# Altium schematic symbol library kmilo17pet-NSC_Switcher.SchLib: 2226 symbols (part 16 of 59)
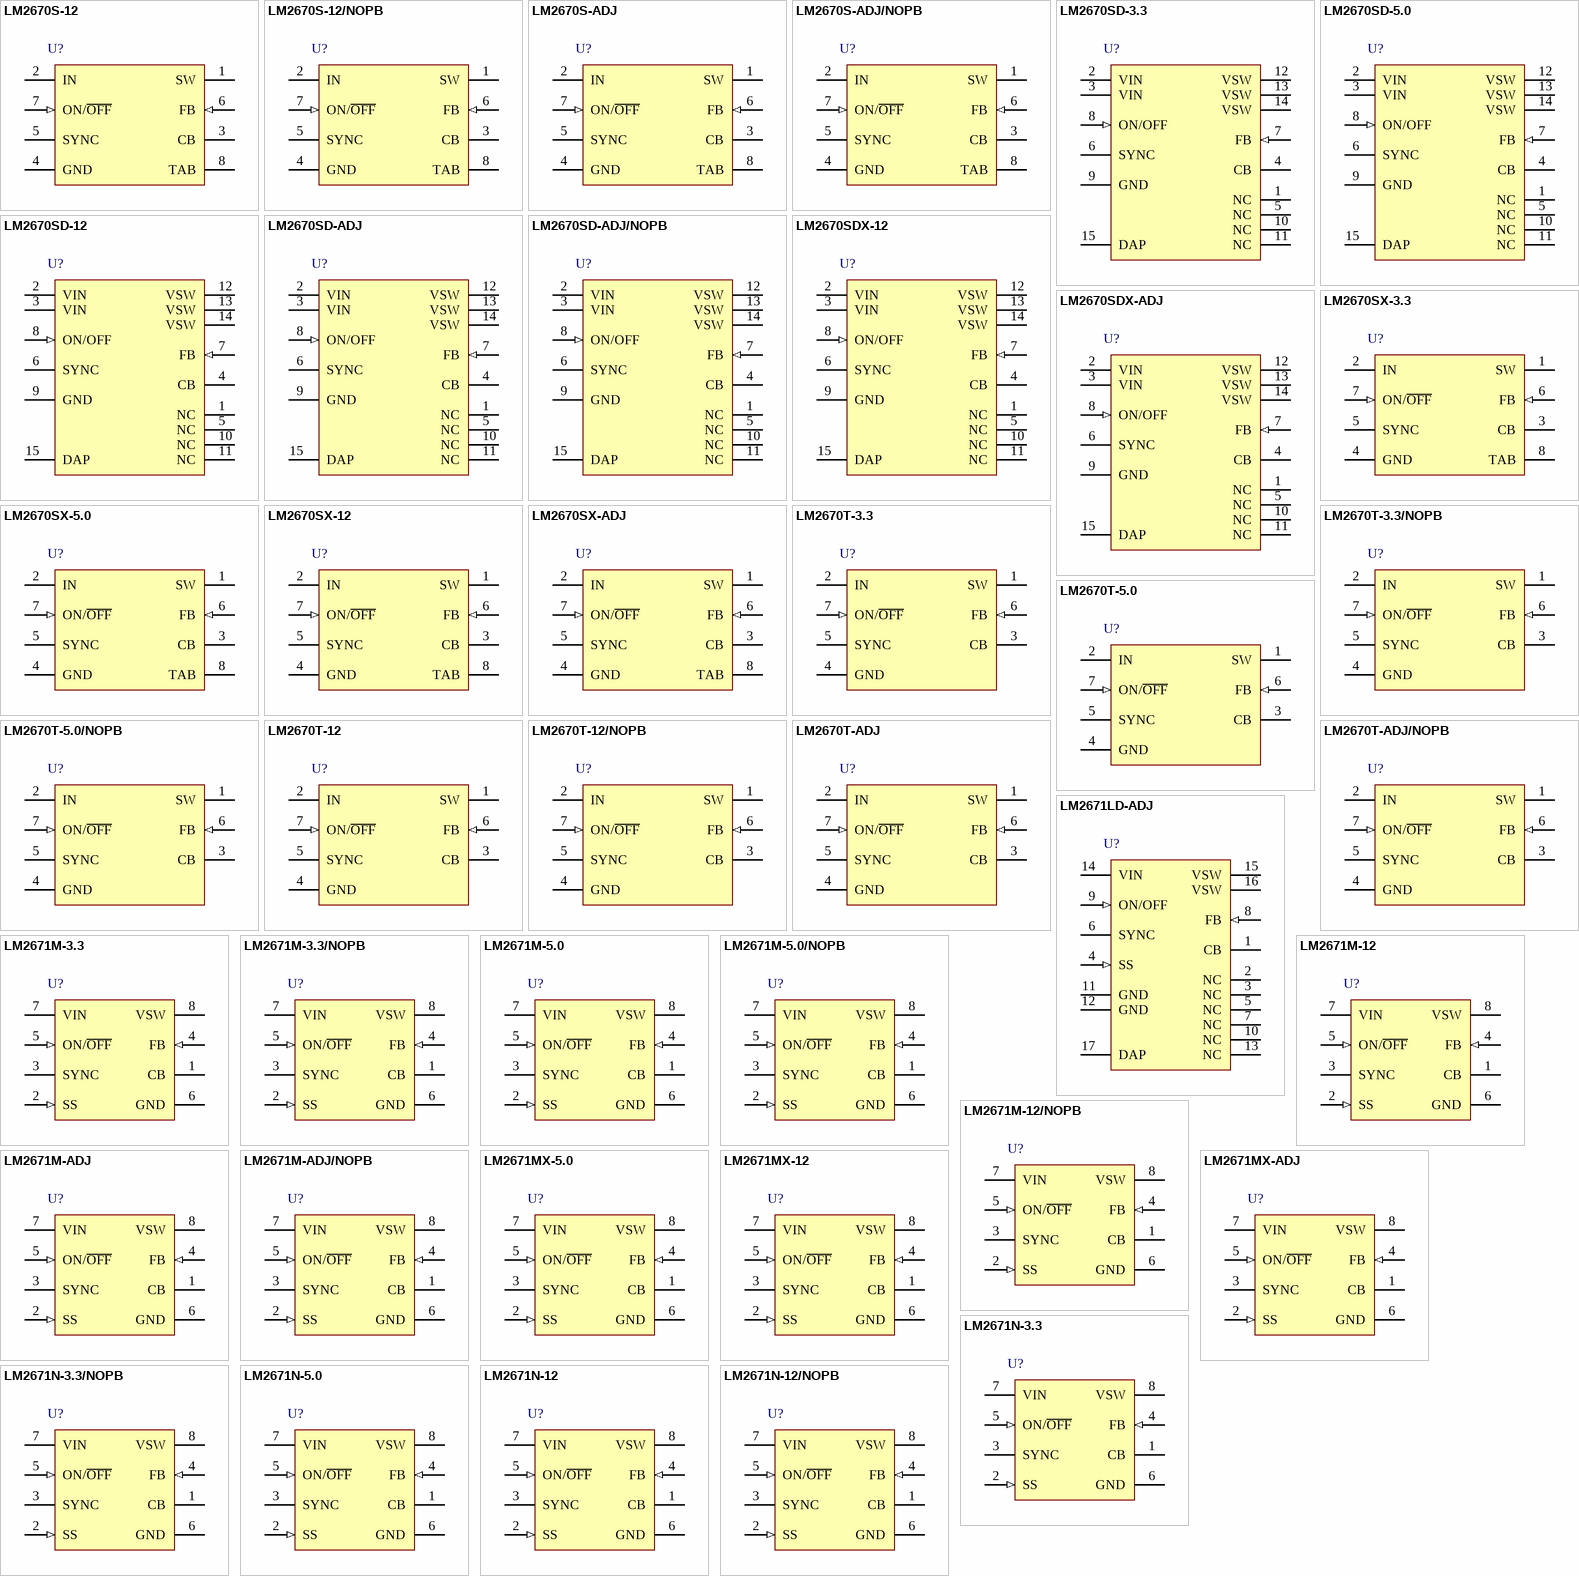
[diagram p84: symbols LM2670S-12 to LM2671N-12/NOPB]

## LM2670T-3.3/NOPB
designator U?
SIMPLE SWITCHER® High Efficiency 3A Step-Down Voltage Regulator with Sync, 7-pin TO-220, Pb-Free; PartNumber: LM2670T-3.3/NOPB; Manufacturer: National Semiconductor; PackageTopMarking: NSUZXYTTE#*LM2670*T-3.3; PowerWise: N; High-Reliability: Y; DatasheetVersion: Feb-2008; PackageVersion: revC, Apr-1999; PackageReference: TA07B; PackageDescription: TO-220, Molded, .400 x .590 x .180in Body, 7 Lead, .050in Pitch, Staggered; RoHS: Y; PinCount: 7; CompType: Switcher; Code_JEDEC: TO-220-AB; ComponentLink1Description: Manufacturer URL; ComponentLink1URL: http://www.national.com/; ComponentLink2Description: LM2670 Datasheet; ComponentLink2URL: http://www.national.com/ds/LM/LM2670.pdf; ComponentLink3Description: LM2670 Web Page; ComponentLink3URL: http://www.national.com/pf/LM/LM2670.html; ComponentLink4Description: TA07B Package Page; ComponentLink4URL: http://www.national.com/packaging/folders/ta07b.html
footprint TA07B (TO, Thru-Hole, Vertical, Heatsink Mounted; 7 Bent Staggered Leads; Body 10.2x8.7x4.6mm, Pitch 1.27 mm)
pins: 1 SW (power), 2 IN (power), 3 CB, 4 GND (power), 5 SYNC, 6 FB (in), 7 ON/~{OFF} (in)

## LM2670T-5.0
designator U?
SIMPLE SWITCHER® High Efficiency 3A Step-Down Voltage Regulator with Sync, 7-pin TO-220; PartNumber: LM2670T-5.0; Manufacturer: National Semiconductor; PackageTopMarking: NSUZXYTTE#*LM2670*T-5.0; PowerWise: N; High-Reliability: Y; DatasheetVersion: Feb-2008; PackageVersion: revC, Apr-1999; PackageReference: TA07B; PackageDescription: TO-220, Molded, .400 x .590 x .180in Body, 7 Lead, .050in Pitch, Staggered; RoHS: N; PinCount: 7; CompType: Switcher; Code_JEDEC: TO-220-AB; ComponentLink1Description: Manufacturer URL; ComponentLink1URL: http://www.national.com/; ComponentLink2Description: LM2670 Datasheet; ComponentLink2URL: http://www.national.com/ds/LM/LM2670.pdf; ComponentLink3Description: LM2670 Web Page; ComponentLink3URL: http://www.national.com/pf/LM/LM2670.html; ComponentLink4Description: TA07B Package Page; ComponentLink4URL: http://www.national.com/packaging/folders/ta07b.html
footprint TA07B (TO, Thru-Hole, Vertical, Heatsink Mounted; 7 Bent Staggered Leads; Body 10.2x8.7x4.6mm, Pitch 1.27 mm)
pins: 1 SW (power), 2 IN (power), 3 CB, 4 GND (power), 5 SYNC, 6 FB (in), 7 ON/~{OFF} (in)

## LM2670T-5.0/NOPB
designator U?
SIMPLE SWITCHER® High Efficiency 3A Step-Down Voltage Regulator with Sync, 7-pin TO-220, Pb-Free; PartNumber: LM2670T-5.0/NOPB; Manufacturer: National Semiconductor; PackageTopMarking: NSUZXYTTE#*LM2670*T-5.0; PowerWise: N; High-Reliability: Y; DatasheetVersion: Feb-2008; PackageVersion: revC, Apr-1999; PackageReference: TA07B; PackageDescription: TO-220, Molded, .400 x .590 x .180in Body, 7 Lead, .050in Pitch, Staggered; RoHS: Y; PinCount: 7; CompType: Switcher; Code_JEDEC: TO-220-AB; ComponentLink1Description: Manufacturer URL; ComponentLink1URL: http://www.national.com/; ComponentLink2Description: LM2670 Datasheet; ComponentLink2URL: http://www.national.com/ds/LM/LM2670.pdf; ComponentLink3Description: LM2670 Web Page; ComponentLink3URL: http://www.national.com/pf/LM/LM2670.html; ComponentLink4Description: TA07B Package Page; ComponentLink4URL: http://www.national.com/packaging/folders/ta07b.html
footprint TA07B (TO, Thru-Hole, Vertical, Heatsink Mounted; 7 Bent Staggered Leads; Body 10.2x8.7x4.6mm, Pitch 1.27 mm)
pins: 1 SW (power), 2 IN (power), 3 CB, 4 GND (power), 5 SYNC, 6 FB (in), 7 ON/~{OFF} (in)

## LM2670T-12
designator U?
SIMPLE SWITCHER® High Efficiency 3A Step-Down Voltage Regulator with Sync, 7-pin TO-220; PartNumber: LM2670T-12; Manufacturer: National Semiconductor; PackageTopMarking: NSUZXYTT*LM2670*T-12; PowerWise: N; High-Reliability: Y; DatasheetVersion: Feb-2008; PackageVersion: revC, Apr-1999; PackageReference: TA07B; PackageDescription: TO-220, Molded, .400 x .590 x .180in Body, 7 Lead, .050in Pitch, Staggered; RoHS: Y; PinCount: 7; CompType: Switcher; Code_JEDEC: TO-220-AB; ComponentLink1Description: Manufacturer URL; ComponentLink1URL: http://www.national.com/; ComponentLink2Description: LM2670 Datasheet; ComponentLink2URL: http://www.national.com/ds/LM/LM2670.pdf; ComponentLink3Description: LM2670 Web Page; ComponentLink3URL: http://www.national.com/pf/LM/LM2670.html; ComponentLink4Description: TA07B Package Page; ComponentLink4URL: http://www.national.com/packaging/folders/ta07b.html
footprint TA07B (TO, Thru-Hole, Vertical, Heatsink Mounted; 7 Bent Staggered Leads; Body 10.2x8.7x4.6mm, Pitch 1.27 mm)
pins: 1 SW (power), 2 IN (power), 3 CB, 4 GND (power), 5 SYNC, 6 FB (in), 7 ON/~{OFF} (in)

## LM2670T-12/NOPB
designator U?
SIMPLE SWITCHER® High Efficiency 3A Step-Down Voltage Regulator with Sync, 7-pin TO-220, Pb-Free; PartNumber: LM2670T-12/NOPB; Manufacturer: National Semiconductor; PackageTopMarking: NSUZXYTTE#*LM2670*T-12; PowerWise: N; High-Reliability: Y; DatasheetVersion: Feb-2008; PackageVersion: revC, Apr-1999; PackageReference: TA07B; PackageDescription: TO-220, Molded, .400 x .590 x .180in Body, 7 Lead, .050in Pitch, Staggered; RoHS: Y; PinCount: 7; CompType: Switcher; Code_JEDEC: TO-220-AB; ComponentLink1Description: Manufacturer URL; ComponentLink1URL: http://www.national.com/; ComponentLink2Description: LM2670 Datasheet; ComponentLink2URL: http://www.national.com/ds/LM/LM2670.pdf; ComponentLink3Description: LM2670 Web Page; ComponentLink3URL: http://www.national.com/pf/LM/LM2670.html; ComponentLink4Description: TA07B Package Page; ComponentLink4URL: http://www.national.com/packaging/folders/ta07b.html
footprint TA07B (TO, Thru-Hole, Vertical, Heatsink Mounted; 7 Bent Staggered Leads; Body 10.2x8.7x4.6mm, Pitch 1.27 mm)
pins: 1 SW (power), 2 IN (power), 3 CB, 4 GND (power), 5 SYNC, 6 FB (in), 7 ON/~{OFF} (in)

## LM2670T-ADJ
designator U?
SIMPLE SWITCHER® High Efficiency 3A Step-Down Voltage Regulator with Sync, 7-pin TO-220; PartNumber: LM2670T-ADJ; Manufacturer: National Semiconductor; PackageTopMarking: NSUZXYTTE#*LM2670*T-ADJ; PowerWise: N; High-Reliability: Y; DatasheetVersion: Feb-2008; PackageVersion: revC, Apr-1999; PackageReference: TA07B; PackageDescription: TO-220, Molded, .400 x .590 x .180in Body, 7 Lead, .050in Pitch, Staggered; RoHS: N; PinCount: 7; CompType: Switcher; Code_JEDEC: TO-220-AB; ComponentLink1Description: Manufacturer URL; ComponentLink1URL: http://www.national.com/; ComponentLink2Description: LM2670 Datasheet; ComponentLink2URL: http://www.national.com/ds/LM/LM2670.pdf; ComponentLink3Description: LM2670 Web Page; ComponentLink3URL: http://www.national.com/pf/LM/LM2670.html; ComponentLink4Description: TA07B Package Page; ComponentLink4URL: http://www.national.com/packaging/folders/ta07b.html
footprint TA07B (TO, Thru-Hole, Vertical, Heatsink Mounted; 7 Bent Staggered Leads; Body 10.2x8.7x4.6mm, Pitch 1.27 mm)
pins: 1 SW (power), 2 IN (power), 3 CB, 4 GND (power), 5 SYNC, 6 FB (in), 7 ON/~{OFF} (in)

## LM2670T-ADJ/NOPB
designator U?
SIMPLE SWITCHER® High Efficiency 3A Step-Down Voltage Regulator with Sync, 7-pin TO-220, Pb-Free; PartNumber: LM2670T-ADJ/NOPB; Manufacturer: National Semiconductor; PackageTopMarking: NSUZXYTTE#*LM2670*T-ADJ; PowerWise: N; High-Reliability: Y; DatasheetVersion: Feb-2008; PackageVersion: revC, Apr-1999; PackageReference: TA07B; PackageDescription: TO-220, Molded, .400 x .590 x .180in Body, 7 Lead, .050in Pitch, Staggered; RoHS: Y; PinCount: 7; CompType: Switcher; Code_JEDEC: TO-220-AB; ComponentLink1Description: Manufacturer URL; ComponentLink1URL: http://www.national.com/; ComponentLink2Description: LM2670 Datasheet; ComponentLink2URL: http://www.national.com/ds/LM/LM2670.pdf; ComponentLink3Description: LM2670 Web Page; ComponentLink3URL: http://www.national.com/pf/LM/LM2670.html; ComponentLink4Description: TA07B Package Page; ComponentLink4URL: http://www.national.com/packaging/folders/ta07b.html
footprint TA07B (TO, Thru-Hole, Vertical, Heatsink Mounted; 7 Bent Staggered Leads; Body 10.2x8.7x4.6mm, Pitch 1.27 mm)
pins: 1 SW (power), 2 IN (power), 3 CB, 4 GND (power), 5 SYNC, 6 FB (in), 7 ON/~{OFF} (in)

## LM2671LD-ADJ
designator U?
SIMPLE SWITCHER® Power Converter High Efficiency 500mA Step-Down Voltage Regulator with Features, 16-pin LLP; PartNumber: LM2671LD-ADJ; Manufacturer: National Semiconductor; PackageTopMarking: NS*UZXYTT*S0008B; PowerWise: N; High-Reliability: Y; DatasheetVersion: Apr-2007; PackageVersion: revA, Nov-2000; PackageReference: LDA16A; PackageDescription: LLP, Plastic, Dual, 5 x 5 x 0.75mm Body, 16 Lead, 0.5mm Pitch; RoHS: N; PinCount: 16; CompType: Switcher; ComponentLink1Description: Manufacturer URL; ComponentLink1URL: http://www.national.com/; ComponentLink2Description: LM2671 Datasheet; ComponentLink2URL: http://www.national.com/ds/LM/LM2671.pdf; ComponentLink3Description: LM2671 Web Page; ComponentLink3URL: http://www.national.com/pf/LM/LM2671.html; ComponentLink4Description: LDA16A Package Page; ComponentLink4URL: http://www.national.com/packaging/folders/lda16a.html
footprint LDA16A (PSON, 16-Leads, Body 5x5 mm, Pitch 0.5mm, NSC Recommended)
pins: 1 CB, 2 NC, 3 NC, 4 SS (in), 5 NC, 6 SYNC, 7 NC, 8 FB (in), 9 ON/OFF (in), 10 NC, 11 GND (power), 12 GND (power), 13 NC, 14 VIN (power), 15 VSW (power), 16 VSW (power), 17 DAP

## LM2671M-3.3
designator U?
SIMPLE SWITCHER® Power Converter High Efficiency 500mA Step-Down Voltage Regulator with Features, 8-pin Narrow SOIC; PartNumber: LM2671M-3.3; Manufacturer: National Semiconductor; PackageTopMarking: NSZXTT*2671*M3.3; PowerWise: N; High-Reliability: Y; DatasheetVersion: Apr-2007; PackageVersion: revM, May-2009; PackageReference: M08A; PackageDescription: SOIC Narrow, 4.9 x 3.9 x 1.45mm, 8 Lead, 1.27mm Pitch; RoHS: N; PinCount: 8; CompType: Switcher; Code_JEDEC: MS-012-AA; Code_IPC: SOIC127P600-8; ComponentLink1Description: Manufacturer URL; ComponentLink1URL: http://www.national.com/; ComponentLink2Description: LM2671 Datasheet; ComponentLink2URL: http://www.national.com/ds/LM/LM2671.pdf; ComponentLink3Description: LM2671 Web Page; ComponentLink3URL: http://www.national.com/pf/LM/LM2671.html; ComponentLink4Description: M08A Package Page; ComponentLink4URL: http://www.national.com/packaging/folders/m08a.html
footprint M08A_N (SOIC, 8-Leads, Body 4.9x3.9mm, Pitch 1.27mm, IPC Medium Density)
footprint M08A_L (SOIC, 8-Leads, Body 4.9x3.9mm, Pitch 1.27mm, IPC High Density)
footprint M08A_M (SOIC, 8-Leads, Body 4.9x3.9mm, Pitch 1.27mm, IPC Low Density)
pins: 1 CB, 2 SS (in), 3 SYNC, 4 FB (in), 5 ON/~{OFF} (in), 6 GND (power), 7 VIN (power), 8 VSW (power)

## LM2671M-3.3/NOPB
designator U?
SIMPLE SWITCHER® Power Converter High Efficiency 500mA Step-Down Voltage Regulator with Features, 8-pin Narrow SOIC, Pb-Free; PartNumber: LM2671M-3.3/NOPB; Manufacturer: National Semiconductor; PackageTopMarking: NSZXTT*2671*M3.3; PowerWise: N; High-Reliability: Y; DatasheetVersion: Apr-2007; PackageVersion: revM, May-2009; PackageReference: M08A; PackageDescription: SOIC Narrow, 4.9 x 3.9 x 1.45mm, 8 Lead, 1.27mm Pitch; RoHS: Y; PinCount: 8; CompType: Switcher; Code_JEDEC: MS-012-AA; Code_IPC: SOIC127P600-8; ComponentLink1Description: Manufacturer URL; ComponentLink1URL: http://www.national.com/; ComponentLink2Description: LM2671 Datasheet; ComponentLink2URL: http://www.national.com/ds/LM/LM2671.pdf; ComponentLink3Description: LM2671 Web Page; ComponentLink3URL: http://www.national.com/pf/LM/LM2671.html; ComponentLink4Description: M08A Package Page; ComponentLink4URL: http://www.national.com/packaging/folders/m08a.html
footprint M08A_N (SOIC, 8-Leads, Body 4.9x3.9mm, Pitch 1.27mm, IPC Medium Density)
footprint M08A_L (SOIC, 8-Leads, Body 4.9x3.9mm, Pitch 1.27mm, IPC High Density)
footprint M08A_M (SOIC, 8-Leads, Body 4.9x3.9mm, Pitch 1.27mm, IPC Low Density)
pins: 1 CB, 2 SS (in), 3 SYNC, 4 FB (in), 5 ON/~{OFF} (in), 6 GND (power), 7 VIN (power), 8 VSW (power)

## LM2671M-5.0
designator U?
SIMPLE SWITCHER® Power Converter High Efficiency 500mA Step-Down Voltage Regulator with Features, 8-pin Narrow SOIC; PartNumber: LM2671M-5.0; Manufacturer: National Semiconductor; PackageTopMarking: NSZXTT*2671*M5.0; PowerWise: N; High-Reliability: Y; DatasheetVersion: Apr-2007; PackageVersion: revM, May-2009; PackageReference: M08A; PackageDescription: SOIC Narrow, 4.9 x 3.9 x 1.45mm, 8 Lead, 1.27mm Pitch; RoHS: N; PinCount: 8; CompType: Switcher; Code_JEDEC: MS-012-AA; Code_IPC: SOIC127P600-8; ComponentLink1Description: Manufacturer URL; ComponentLink1URL: http://www.national.com/; ComponentLink2Description: LM2671 Datasheet; ComponentLink2URL: http://www.national.com/ds/LM/LM2671.pdf; ComponentLink3Description: LM2671 Web Page; ComponentLink3URL: http://www.national.com/pf/LM/LM2671.html; ComponentLink4Description: M08A Package Page; ComponentLink4URL: http://www.national.com/packaging/folders/m08a.html
footprint M08A_N (SOIC, 8-Leads, Body 4.9x3.9mm, Pitch 1.27mm, IPC Medium Density)
footprint M08A_L (SOIC, 8-Leads, Body 4.9x3.9mm, Pitch 1.27mm, IPC High Density)
footprint M08A_M (SOIC, 8-Leads, Body 4.9x3.9mm, Pitch 1.27mm, IPC Low Density)
pins: 1 CB, 2 SS (in), 3 SYNC, 4 FB (in), 5 ON/~{OFF} (in), 6 GND (power), 7 VIN (power), 8 VSW (power)

## LM2671M-5.0/NOPB
designator U?
SIMPLE SWITCHER® Power Converter High Efficiency 500mA Step-Down Voltage Regulator with Features, 8-pin Narrow SOIC, Pb-Free; PartNumber: LM2671M-5.0/NOPB; Manufacturer: National Semiconductor; PackageTopMarking: NSZXTT*2671*M5.0; PowerWise: N; High-Reliability: Y; DatasheetVersion: Apr-2007; PackageVersion: revM, May-2009; PackageReference: M08A; PackageDescription: SOIC Narrow, 4.9 x 3.9 x 1.45mm, 8 Lead, 1.27mm Pitch; RoHS: Y; PinCount: 8; CompType: Switcher; Code_JEDEC: MS-012-AA; Code_IPC: SOIC127P600-8; ComponentLink1Description: Manufacturer URL; ComponentLink1URL: http://www.national.com/; ComponentLink2Description: LM2671 Datasheet; ComponentLink2URL: http://www.national.com/ds/LM/LM2671.pdf; ComponentLink3Description: LM2671 Web Page; ComponentLink3URL: http://www.national.com/pf/LM/LM2671.html; ComponentLink4Description: M08A Package Page; ComponentLink4URL: http://www.national.com/packaging/folders/m08a.html
footprint M08A_N (SOIC, 8-Leads, Body 4.9x3.9mm, Pitch 1.27mm, IPC Medium Density)
footprint M08A_L (SOIC, 8-Leads, Body 4.9x3.9mm, Pitch 1.27mm, IPC High Density)
footprint M08A_M (SOIC, 8-Leads, Body 4.9x3.9mm, Pitch 1.27mm, IPC Low Density)
pins: 1 CB, 2 SS (in), 3 SYNC, 4 FB (in), 5 ON/~{OFF} (in), 6 GND (power), 7 VIN (power), 8 VSW (power)

## LM2671M-12
designator U?
SIMPLE SWITCHER® Power Converter High Efficiency 500mA Step-Down Voltage Regulator with Features, 8-pin Narrow SOIC; PartNumber: LM2671M-12; Manufacturer: National Semiconductor; PackageTopMarking: NSZXTT*2671*M-12; PowerWise: N; High-Reliability: Y; DatasheetVersion: Apr-2007; PackageVersion: revM, May-2009; PackageReference: M08A; PackageDescription: SOIC Narrow, 4.9 x 3.9 x 1.45mm, 8 Lead, 1.27mm Pitch; RoHS: N; PinCount: 8; CompType: Switcher; Code_JEDEC: MS-012-AA; Code_IPC: SOIC127P600-8; ComponentLink1Description: Manufacturer URL; ComponentLink1URL: http://www.national.com/; ComponentLink2Description: LM2671 Datasheet; ComponentLink2URL: http://www.national.com/ds/LM/LM2671.pdf; ComponentLink3Description: LM2671 Web Page; ComponentLink3URL: http://www.national.com/pf/LM/LM2671.html; ComponentLink4Description: M08A Package Page; ComponentLink4URL: http://www.national.com/packaging/folders/m08a.html
footprint M08A_N (SOIC, 8-Leads, Body 4.9x3.9mm, Pitch 1.27mm, IPC Medium Density)
footprint M08A_L (SOIC, 8-Leads, Body 4.9x3.9mm, Pitch 1.27mm, IPC High Density)
footprint M08A_M (SOIC, 8-Leads, Body 4.9x3.9mm, Pitch 1.27mm, IPC Low Density)
pins: 1 CB, 2 SS (in), 3 SYNC, 4 FB (in), 5 ON/~{OFF} (in), 6 GND (power), 7 VIN (power), 8 VSW (power)

## LM2671M-12/NOPB
designator U?
SIMPLE SWITCHER® Power Converter High Efficiency 500mA Step-Down Voltage Regulator with Features, 8-pin Narrow SOIC, Pb-Free; PartNumber: LM2671M-12/NOPB; Manufacturer: National Semiconductor; PackageTopMarking: NSZXTT*2671*M-12; PowerWise: N; High-Reliability: Y; DatasheetVersion: Apr-2007; PackageVersion: revM, May-2009; PackageReference: M08A; PackageDescription: SOIC Narrow, 4.9 x 3.9 x 1.45mm, 8 Lead, 1.27mm Pitch; RoHS: Y; PinCount: 8; CompType: Switcher; Code_JEDEC: MS-012-AA; Code_IPC: SOIC127P600-8; ComponentLink1Description: Manufacturer URL; ComponentLink1URL: http://www.national.com/; ComponentLink2Description: LM2671 Datasheet; ComponentLink2URL: http://www.national.com/ds/LM/LM2671.pdf; ComponentLink3Description: LM2671 Web Page; ComponentLink3URL: http://www.national.com/pf/LM/LM2671.html; ComponentLink4Description: M08A Package Page; ComponentLink4URL: http://www.national.com/packaging/folders/m08a.html
footprint M08A_N (SOIC, 8-Leads, Body 4.9x3.9mm, Pitch 1.27mm, IPC Medium Density)
footprint M08A_L (SOIC, 8-Leads, Body 4.9x3.9mm, Pitch 1.27mm, IPC High Density)
footprint M08A_M (SOIC, 8-Leads, Body 4.9x3.9mm, Pitch 1.27mm, IPC Low Density)
pins: 1 CB, 2 SS (in), 3 SYNC, 4 FB (in), 5 ON/~{OFF} (in), 6 GND (power), 7 VIN (power), 8 VSW (power)

## LM2671M-ADJ
designator U?
SIMPLE SWITCHER® Power Converter High Efficiency 500mA Step-Down Voltage Regulator with Features, 8-pin Narrow SOIC; PartNumber: LM2671M-ADJ; Manufacturer: National Semiconductor; PackageTopMarking: NSZXTT*2671*MADJ; PowerWise: N; High-Reliability: Y; DatasheetVersion: Apr-2007; PackageVersion: revM, May-2009; PackageReference: M08A; PackageDescription: SOIC Narrow, 4.9 x 3.9 x 1.45mm, 8 Lead, 1.27mm Pitch; RoHS: N; PinCount: 8; CompType: Switcher; Code_JEDEC: MS-012-AA; Code_IPC: SOIC127P600-8; ComponentLink1Description: Manufacturer URL; ComponentLink1URL: http://www.national.com/; ComponentLink2Description: LM2671 Datasheet; ComponentLink2URL: http://www.national.com/ds/LM/LM2671.pdf; ComponentLink3Description: LM2671 Web Page; ComponentLink3URL: http://www.national.com/pf/LM/LM2671.html; ComponentLink4Description: M08A Package Page; ComponentLink4URL: http://www.national.com/packaging/folders/m08a.html
footprint M08A_N (SOIC, 8-Leads, Body 4.9x3.9mm, Pitch 1.27mm, IPC Medium Density)
footprint M08A_L (SOIC, 8-Leads, Body 4.9x3.9mm, Pitch 1.27mm, IPC High Density)
footprint M08A_M (SOIC, 8-Leads, Body 4.9x3.9mm, Pitch 1.27mm, IPC Low Density)
pins: 1 CB, 2 SS (in), 3 SYNC, 4 FB (in), 5 ON/~{OFF} (in), 6 GND (power), 7 VIN (power), 8 VSW (power)

## LM2671M-ADJ/NOPB
designator U?
SIMPLE SWITCHER® Power Converter High Efficiency 500mA Step-Down Voltage Regulator with Features, 8-pin Narrow SOIC, Pb-Free; PartNumber: LM2671M-ADJ/NOPB; Manufacturer: National Semiconductor; PackageTopMarking: NSZXTT*2671*MADJ; PowerWise: N; High-Reliability: Y; DatasheetVersion: Apr-2007; PackageVersion: revM, May-2009; PackageReference: M08A; PackageDescription: SOIC Narrow, 4.9 x 3.9 x 1.45mm, 8 Lead, 1.27mm Pitch; RoHS: Y; PinCount: 8; CompType: Switcher; Code_JEDEC: MS-012-AA; Code_IPC: SOIC127P600-8; ComponentLink1Description: Manufacturer URL; ComponentLink1URL: http://www.national.com/; ComponentLink2Description: LM2671 Datasheet; ComponentLink2URL: http://www.national.com/ds/LM/LM2671.pdf; ComponentLink3Description: LM2671 Web Page; ComponentLink3URL: http://www.national.com/pf/LM/LM2671.html; ComponentLink4Description: M08A Package Page; ComponentLink4URL: http://www.national.com/packaging/folders/m08a.html
footprint M08A_N (SOIC, 8-Leads, Body 4.9x3.9mm, Pitch 1.27mm, IPC Medium Density)
footprint M08A_L (SOIC, 8-Leads, Body 4.9x3.9mm, Pitch 1.27mm, IPC High Density)
footprint M08A_M (SOIC, 8-Leads, Body 4.9x3.9mm, Pitch 1.27mm, IPC Low Density)
pins: 1 CB, 2 SS (in), 3 SYNC, 4 FB (in), 5 ON/~{OFF} (in), 6 GND (power), 7 VIN (power), 8 VSW (power)

## LM2671MX-5.0
designator U?
SIMPLE SWITCHER® Power Converter High Efficiency 500mA Step-Down Voltage Regulator with Features, 8-pin Narrow SOIC; PartNumber: LM2671MX-5.0; Manufacturer: National Semiconductor; PackageTopMarking: NSZXTT*2671*M5.0; PowerWise: N; High-Reliability: Y; DatasheetVersion: Apr-2007; PackageVersion: revM, May-2009; PackageReference: M08A; PackageDescription: SOIC Narrow, 4.9 x 3.9 x 1.45mm, 8 Lead, 1.27mm Pitch; RoHS: N; PinCount: 8; CompType: Switcher; Code_JEDEC: MS-012-AA; Code_IPC: SOIC127P600-8; ComponentLink1Description: Manufacturer URL; ComponentLink1URL: http://www.national.com/; ComponentLink2Description: LM2671 Datasheet; ComponentLink2URL: http://www.national.com/ds/LM/LM2671.pdf; ComponentLink3Description: LM2671 Web Page; ComponentLink3URL: http://www.national.com/pf/LM/LM2671.html; ComponentLink4Description: M08A Package Page; ComponentLink4URL: http://www.national.com/packaging/folders/m08a.html
footprint M08A_N (SOIC, 8-Leads, Body 4.9x3.9mm, Pitch 1.27mm, IPC Medium Density)
footprint M08A_L (SOIC, 8-Leads, Body 4.9x3.9mm, Pitch 1.27mm, IPC High Density)
footprint M08A_M (SOIC, 8-Leads, Body 4.9x3.9mm, Pitch 1.27mm, IPC Low Density)
pins: 1 CB, 2 SS (in), 3 SYNC, 4 FB (in), 5 ON/~{OFF} (in), 6 GND (power), 7 VIN (power), 8 VSW (power)

## LM2671MX-12
designator U?
SIMPLE SWITCHER® Power Converter High Efficiency 500mA Step-Down Voltage Regulator with Features, 8-pin Narrow SOIC; PartNumber: LM2671MX-12; Manufacturer: National Semiconductor; PackageTopMarking: NSZXTT*2671*M-12; PowerWise: N; High-Reliability: Y; DatasheetVersion: Apr-2007; PackageVersion: revM, May-2009; PackageReference: M08A; PackageDescription: SOIC Narrow, 4.9 x 3.9 x 1.45mm, 8 Lead, 1.27mm Pitch; RoHS: N; PinCount: 8; CompType: Switcher; Code_JEDEC: MS-012-AA; Code_IPC: SOIC127P600-8; ComponentLink1Description: Manufacturer URL; ComponentLink1URL: http://www.national.com/; ComponentLink2Description: LM2671 Datasheet; ComponentLink2URL: http://www.national.com/ds/LM/LM2671.pdf; ComponentLink3Description: LM2671 Web Page; ComponentLink3URL: http://www.national.com/pf/LM/LM2671.html; ComponentLink4Description: M08A Package Page; ComponentLink4URL: http://www.national.com/packaging/folders/m08a.html
footprint M08A_N (SOIC, 8-Leads, Body 4.9x3.9mm, Pitch 1.27mm, IPC Medium Density)
footprint M08A_L (SOIC, 8-Leads, Body 4.9x3.9mm, Pitch 1.27mm, IPC High Density)
footprint M08A_M (SOIC, 8-Leads, Body 4.9x3.9mm, Pitch 1.27mm, IPC Low Density)
pins: 1 CB, 2 SS (in), 3 SYNC, 4 FB (in), 5 ON/~{OFF} (in), 6 GND (power), 7 VIN (power), 8 VSW (power)

## LM2671MX-ADJ
designator U?
SIMPLE SWITCHER® Power Converter High Efficiency 500mA Step-Down Voltage Regulator with Features, 8-pin Narrow SOIC; PartNumber: LM2671MX-ADJ; Manufacturer: National Semiconductor; PackageTopMarking: NSZXTT*2671*MADJ; PowerWise: N; High-Reliability: Y; DatasheetVersion: Apr-2007; PackageVersion: revM, May-2009; PackageReference: M08A; PackageDescription: SOIC Narrow, 4.9 x 3.9 x 1.45mm, 8 Lead, 1.27mm Pitch; RoHS: N; PinCount: 8; CompType: Switcher; Code_JEDEC: MS-012-AA; Code_IPC: SOIC127P600-8; ComponentLink1Description: Manufacturer URL; ComponentLink1URL: http://www.national.com/; ComponentLink2Description: LM2671 Datasheet; ComponentLink2URL: http://www.national.com/ds/LM/LM2671.pdf; ComponentLink3Description: LM2671 Web Page; ComponentLink3URL: http://www.national.com/pf/LM/LM2671.html; ComponentLink4Description: M08A Package Page; ComponentLink4URL: http://www.national.com/packaging/folders/m08a.html
footprint M08A_N (SOIC, 8-Leads, Body 4.9x3.9mm, Pitch 1.27mm, IPC Medium Density)
footprint M08A_L (SOIC, 8-Leads, Body 4.9x3.9mm, Pitch 1.27mm, IPC High Density)
footprint M08A_M (SOIC, 8-Leads, Body 4.9x3.9mm, Pitch 1.27mm, IPC Low Density)
pins: 1 CB, 2 SS (in), 3 SYNC, 4 FB (in), 5 ON/~{OFF} (in), 6 GND (power), 7 VIN (power), 8 VSW (power)

## LM2671N-3.3
designator U?
SIMPLE SWITCHER® Power Converter High Efficiency 500mA Step-Down Voltage Regulator with Features, 8-pin MDIP; PartNumber: LM2671N-3.3; Manufacturer: National Semiconductor; PackageTopMarking: NSUZXYTTE#*LM2671*N-3.3; PowerWise: N; High-Reliability: Y; DatasheetVersion: Apr-2007; PackageVersion: revG, May-2006; PackageReference: N08E; PackageDescription: MDIP, .365 x .250 x .130in, 8 Lead, .100in Pitch; RoHS: N; PinCount: 8; CompType: Switcher; Code_JEDEC: MS-001-BA; ComponentLink1Description: Manufacturer URL; ComponentLink1URL: http://www.national.com/; ComponentLink2Description: LM2671 Datasheet; ComponentLink2URL: http://www.national.com/ds/LM/LM2671.pdf; ComponentLink3Description: LM2671 Web Page; ComponentLink3URL: http://www.national.com/pf/LM/LM2671.html; ComponentLink4Description: N08E Package Page; ComponentLink4URL: http://www.national.com/packaging/folders/n08e.html
footprint N08E (DIP, 8-Leads, Row Spacing 7.62mm, Pitch 2.54mm, Body 9.91x6.35mm)
pins: 1 CB, 2 SS (in), 3 SYNC, 4 FB (in), 5 ON/~{OFF} (in), 6 GND (power), 7 VIN (power), 8 VSW (power)

## LM2671N-3.3/NOPB
designator U?
SIMPLE SWITCHER® Power Converter High Efficiency 500mA Step-Down Voltage Regulator with Features, 8-pin MDIP, Pb-Free; PartNumber: LM2671N-3.3/NOPB; Manufacturer: National Semiconductor; PackageTopMarking: NSUZXYTTE#*LM2671*N-3.3; PowerWise: N; High-Reliability: Y; DatasheetVersion: Apr-2007; PackageVersion: revG, May-2006; PackageReference: N08E; PackageDescription: MDIP, .365 x .250 x .130in, 8 Lead, .100in Pitch; RoHS: Y; PinCount: 8; CompType: Switcher; Code_JEDEC: MS-001-BA; ComponentLink1Description: Manufacturer URL; ComponentLink1URL: http://www.national.com/; ComponentLink2Description: LM2671 Datasheet; ComponentLink2URL: http://www.national.com/ds/LM/LM2671.pdf; ComponentLink3Description: LM2671 Web Page; ComponentLink3URL: http://www.national.com/pf/LM/LM2671.html; ComponentLink4Description: N08E Package Page; ComponentLink4URL: http://www.national.com/packaging/folders/n08e.html
footprint N08E (DIP, 8-Leads, Row Spacing 7.62mm, Pitch 2.54mm, Body 9.91x6.35mm)
pins: 1 CB, 2 SS (in), 3 SYNC, 4 FB (in), 5 ON/~{OFF} (in), 6 GND (power), 7 VIN (power), 8 VSW (power)

## LM2671N-5.0
designator U?
SIMPLE SWITCHER® Power Converter High Efficiency 500mA Step-Down Voltage Regulator with Features, 8-pin MDIP; PartNumber: LM2671N-5.0; Manufacturer: National Semiconductor; PackageTopMarking: NSUZXYTTE#*LM2671*N-5.0; PowerWise: N; High-Reliability: Y; DatasheetVersion: Apr-2007; PackageVersion: revG, May-2006; PackageReference: N08E; PackageDescription: MDIP, .365 x .250 x .130in, 8 Lead, .100in Pitch; RoHS: N; PinCount: 8; CompType: Switcher; Code_JEDEC: MS-001-BA; ComponentLink1Description: Manufacturer URL; ComponentLink1URL: http://www.national.com/; ComponentLink2Description: LM2671 Datasheet; ComponentLink2URL: http://www.national.com/ds/LM/LM2671.pdf; ComponentLink3Description: LM2671 Web Page; ComponentLink3URL: http://www.national.com/pf/LM/LM2671.html; ComponentLink4Description: N08E Package Page; ComponentLink4URL: http://www.national.com/packaging/folders/n08e.html
footprint N08E (DIP, 8-Leads, Row Spacing 7.62mm, Pitch 2.54mm, Body 9.91x6.35mm)
pins: 1 CB, 2 SS (in), 3 SYNC, 4 FB (in), 5 ON/~{OFF} (in), 6 GND (power), 7 VIN (power), 8 VSW (power)

## LM2671N-12
designator U?
SIMPLE SWITCHER® Power Converter High Efficiency 500mA Step-Down Voltage Regulator with Features, 8-pin MDIP; PartNumber: LM2671N-12; Manufacturer: National Semiconductor; PackageTopMarking: NSUZXYTTE#*LM2671*N-12; PowerWise: N; High-Reliability: Y; DatasheetVersion: Apr-2007; PackageVersion: revG, May-2006; PackageReference: N08E; PackageDescription: MDIP, .365 x .250 x .130in, 8 Lead, .100in Pitch; RoHS: N; PinCount: 8; CompType: Switcher; Code_JEDEC: MS-001-BA; ComponentLink1Description: Manufacturer URL; ComponentLink1URL: http://www.national.com/; ComponentLink2Description: LM2671 Datasheet; ComponentLink2URL: http://www.national.com/ds/LM/LM2671.pdf; ComponentLink3Description: LM2671 Web Page; ComponentLink3URL: http://www.national.com/pf/LM/LM2671.html; ComponentLink4Description: N08E Package Page; ComponentLink4URL: http://www.national.com/packaging/folders/n08e.html
footprint N08E (DIP, 8-Leads, Row Spacing 7.62mm, Pitch 2.54mm, Body 9.91x6.35mm)
pins: 1 CB, 2 SS (in), 3 SYNC, 4 FB (in), 5 ON/~{OFF} (in), 6 GND (power), 7 VIN (power), 8 VSW (power)

## LM2671N-12/NOPB
designator U?
SIMPLE SWITCHER® Power Converter High Efficiency 500mA Step-Down Voltage Regulator with Features, 8-pin MDIP, Pb-Free; PartNumber: LM2671N-12/NOPB; Manufacturer: National Semiconductor; PackageTopMarking: NSUZXYTTE#*LM2671*N-12; PowerWise: N; High-Reliability: Y; DatasheetVersion: Apr-2007; PackageVersion: revG, May-2006; PackageReference: N08E; PackageDescription: MDIP, .365 x .250 x .130in, 8 Lead, .100in Pitch; RoHS: Y; PinCount: 8; CompType: Switcher; Code_JEDEC: MS-001-BA; ComponentLink1Description: Manufacturer URL; ComponentLink1URL: http://www.national.com/; ComponentLink2Description: LM2671 Datasheet; ComponentLink2URL: http://www.national.com/ds/LM/LM2671.pdf; ComponentLink3Description: LM2671 Web Page; ComponentLink3URL: http://www.national.com/pf/LM/LM2671.html; ComponentLink4Description: N08E Package Page; ComponentLink4URL: http://www.national.com/packaging/folders/n08e.html
footprint N08E (DIP, 8-Leads, Row Spacing 7.62mm, Pitch 2.54mm, Body 9.91x6.35mm)
pins: 1 CB, 2 SS (in), 3 SYNC, 4 FB (in), 5 ON/~{OFF} (in), 6 GND (power), 7 VIN (power), 8 VSW (power)

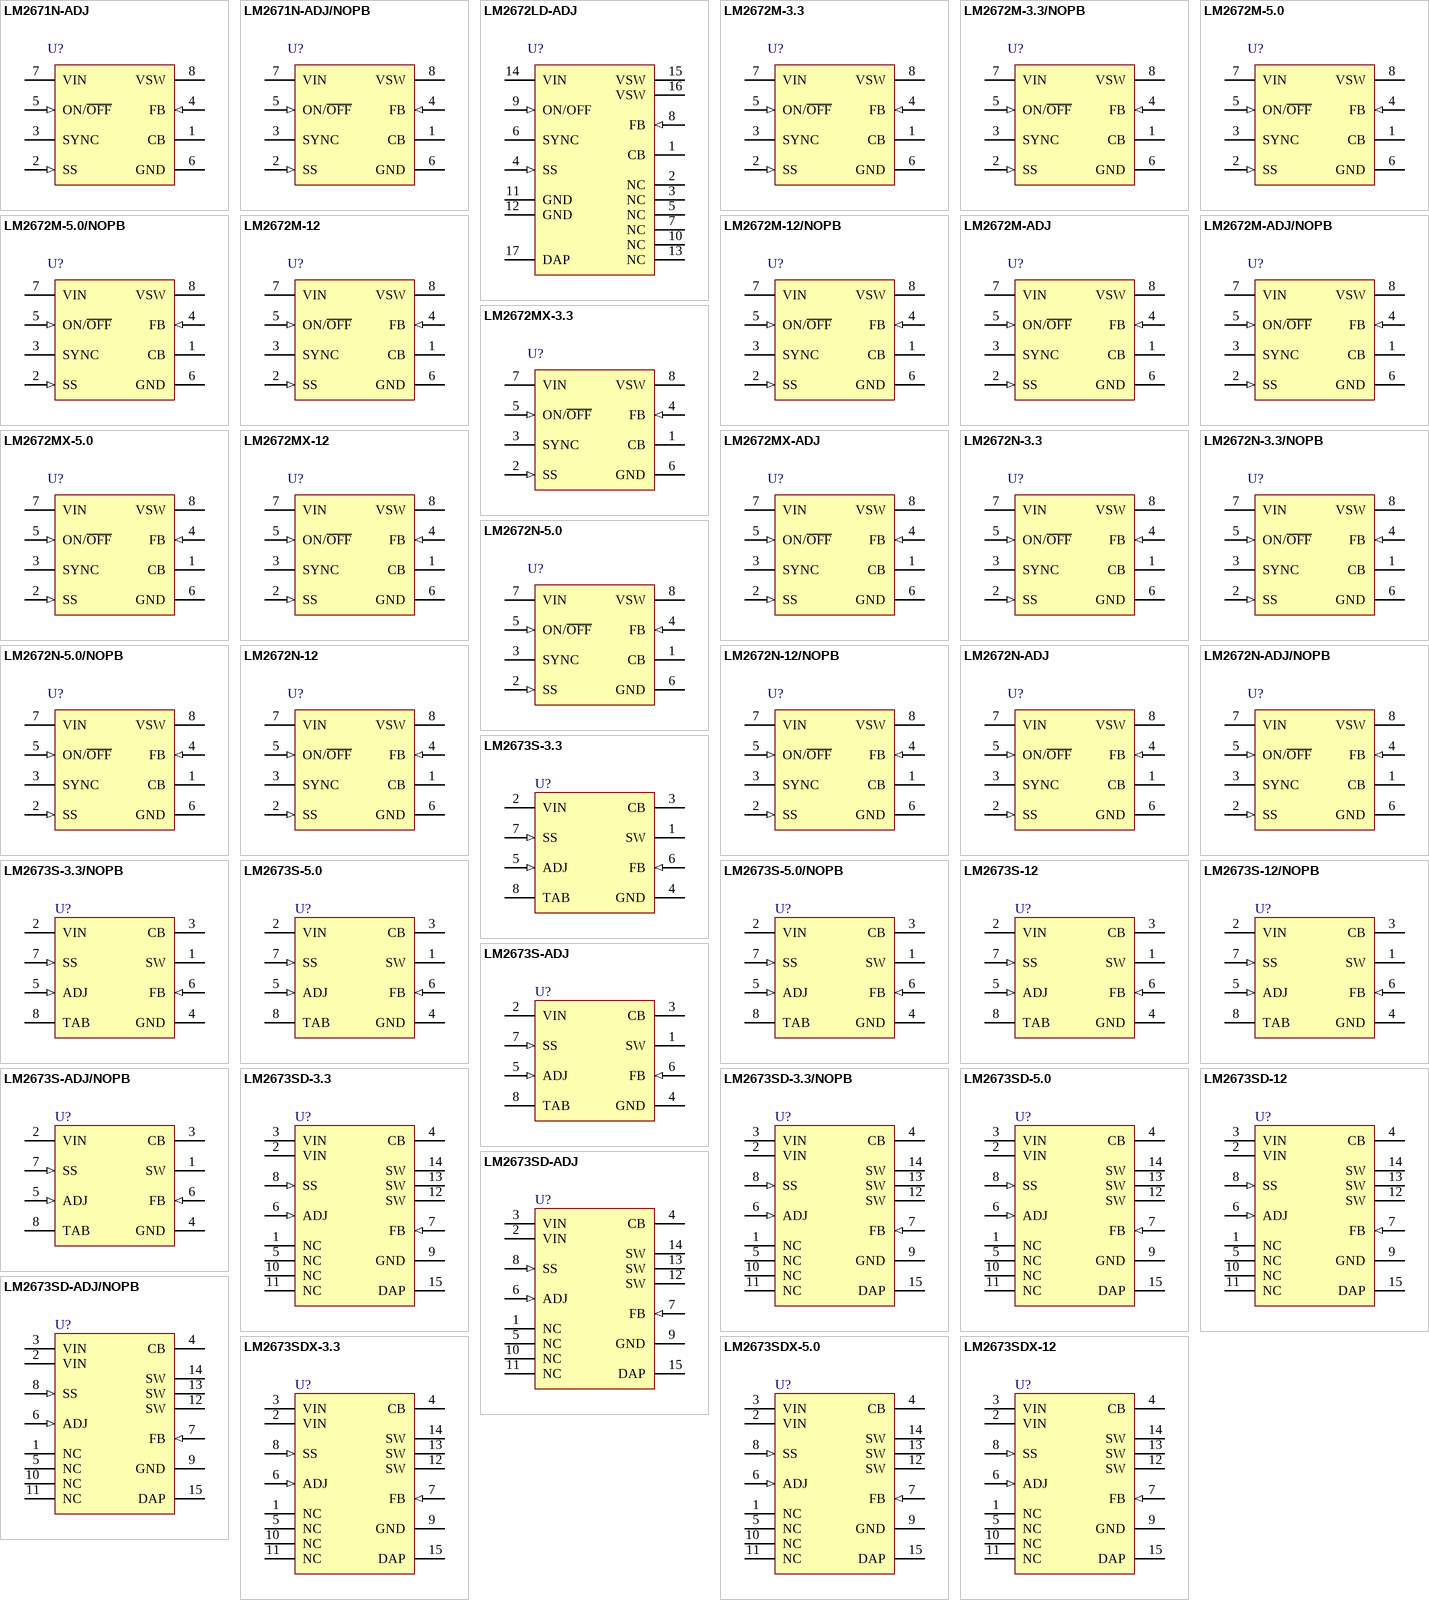
[diagram p17: symbols LM2671N-ADJ to LM2673SDX-12]

## LM2671N-ADJ
designator U?
SIMPLE SWITCHER® Power Converter High Efficiency 500mA Step-Down Voltage Regulator with Features, 8-pin MDIP; PartNumber: LM2671N-ADJ; Manufacturer: National Semiconductor; PackageTopMarking: NSUZXYTTE#*LM2671*N-ADJ; PowerWise: N; High-Reliability: Y; DatasheetVersion: Apr-2007; PackageVersion: revG, May-2006; PackageReference: N08E; PackageDescription: MDIP, .365 x .250 x .130in, 8 Lead, .100in Pitch; RoHS: N; PinCount: 8; CompType: Switcher; Code_JEDEC: MS-001-BA; ComponentLink1Description: Manufacturer URL; ComponentLink1URL: http://www.national.com/; ComponentLink2Description: LM2671 Datasheet; ComponentLink2URL: http://www.national.com/ds/LM/LM2671.pdf; ComponentLink3Description: LM2671 Web Page; ComponentLink3URL: http://www.national.com/pf/LM/LM2671.html; ComponentLink4Description: N08E Package Page; ComponentLink4URL: http://www.national.com/packaging/folders/n08e.html
footprint N08E (DIP, 8-Leads, Row Spacing 7.62mm, Pitch 2.54mm, Body 9.91x6.35mm)
pins: 1 CB, 2 SS (in), 3 SYNC, 4 FB (in), 5 ON/~{OFF} (in), 6 GND (power), 7 VIN (power), 8 VSW (power)

## LM2671N-ADJ/NOPB
designator U?
SIMPLE SWITCHER® Power Converter High Efficiency 500mA Step-Down Voltage Regulator with Features, 8-pin MDIP, Pb-Free; PartNumber: LM2671N-ADJ/NOPB; Manufacturer: National Semiconductor; PackageTopMarking: NSUZXYTTE#*LM2671*N-ADJ; PowerWise: N; High-Reliability: Y; DatasheetVersion: Apr-2007; PackageVersion: revG, May-2006; PackageReference: N08E; PackageDescription: MDIP, .365 x .250 x .130in, 8 Lead, .100in Pitch; RoHS: Y; PinCount: 8; CompType: Switcher; Code_JEDEC: MS-001-BA; ComponentLink1Description: Manufacturer URL; ComponentLink1URL: http://www.national.com/; ComponentLink2Description: LM2671 Datasheet; ComponentLink2URL: http://www.national.com/ds/LM/LM2671.pdf; ComponentLink3Description: LM2671 Web Page; ComponentLink3URL: http://www.national.com/pf/LM/LM2671.html; ComponentLink4Description: N08E Package Page; ComponentLink4URL: http://www.national.com/packaging/folders/n08e.html
footprint N08E (DIP, 8-Leads, Row Spacing 7.62mm, Pitch 2.54mm, Body 9.91x6.35mm)
pins: 1 CB, 2 SS (in), 3 SYNC, 4 FB (in), 5 ON/~{OFF} (in), 6 GND (power), 7 VIN (power), 8 VSW (power)

## LM2672LD-ADJ
designator U?
SIMPLE SWITCHER® Power Converter High Efficiency 1A Step-Down Voltage Regulator with Features, 16-pin LLP; PartNumber: LM2672LD-ADJ; Manufacturer: National Semiconductor; PackageTopMarking: NS*UZXYTT*S0004B; PowerWise: N; High-Reliability: Y; DatasheetVersion: Apr-2007; PackageVersion: revA, Nov-2000; PackageReference: LDA16A; PackageDescription: LLP, Plastic, Dual, 5 x 5 x 0.75mm Body, 16 Lead, 0.5mm Pitch; RoHS: N; PinCount: 16; CompType: Switcher; ComponentLink1Description: Manufacturer URL; ComponentLink1URL: http://www.national.com/; ComponentLink2Description: LM2672 Datasheet; ComponentLink2URL: http://www.national.com/ds/LM/LM2672.pdf; ComponentLink3Description: LM2672 Web Page; ComponentLink3URL: http://www.national.com/pf/LM/LM2672.html; ComponentLink4Description: LDA16A Package Page; ComponentLink4URL: http://www.national.com/packaging/folders/lda16a.html
footprint LDA16A (PSON, 16-Leads, Body 5x5 mm, Pitch 0.5mm, NSC Recommended)
pins: 1 CB, 2 NC, 3 NC, 4 SS (in), 5 NC, 6 SYNC, 7 NC, 8 FB (in), 9 ON/OFF (in), 10 NC, 11 GND (power), 12 GND (power), 13 NC, 14 VIN (power), 15 VSW (power), 16 VSW (power), 17 DAP

## LM2672M-3.3
designator U?
SIMPLE SWITCHER® Power Converter High Efficiency 1A Step-Down Voltage Regulator with Features, 8-pin Narrow SOIC; PartNumber: LM2672M-3.3; Manufacturer: National Semiconductor; PackageTopMarking: NSZXTT*2672*M3.3; PowerWise: N; High-Reliability: Y; DatasheetVersion: Apr-2007; PackageVersion: revM, May-2009; PackageReference: M08A; PackageDescription: SOIC Narrow, 4.9 x 3.9 x 1.45mm, 8 Lead, 1.27mm Pitch; RoHS: N; PinCount: 8; CompType: Switcher; Code_JEDEC: MS-012-AA; Code_IPC: SOIC127P600-8; ComponentLink1Description: Manufacturer URL; ComponentLink1URL: http://www.national.com/; ComponentLink2Description: LM2672 Datasheet; ComponentLink2URL: http://www.national.com/ds/LM/LM2672.pdf; ComponentLink3Description: LM2672 Web Page; ComponentLink3URL: http://www.national.com/pf/LM/LM2672.html; ComponentLink4Description: M08A Package Page; ComponentLink4URL: http://www.national.com/packaging/folders/m08a.html
footprint M08A_N (SOIC, 8-Leads, Body 4.9x3.9mm, Pitch 1.27mm, IPC Medium Density)
footprint M08A_L (SOIC, 8-Leads, Body 4.9x3.9mm, Pitch 1.27mm, IPC High Density)
footprint M08A_M (SOIC, 8-Leads, Body 4.9x3.9mm, Pitch 1.27mm, IPC Low Density)
pins: 1 CB, 2 SS (in), 3 SYNC, 4 FB (in), 5 ON/~{OFF} (in), 6 GND (power), 7 VIN (power), 8 VSW (power)

## LM2672M-3.3/NOPB
designator U?
SIMPLE SWITCHER® Power Converter High Efficiency 1A Step-Down Voltage Regulator with Features, 8-pin Narrow SOIC, Pb-Free; PartNumber: LM2672M-3.3/NOPB; Manufacturer: National Semiconductor; PackageTopMarking: NSZXTT*2672*M3.3; PowerWise: N; High-Reliability: Y; DatasheetVersion: Apr-2007; PackageVersion: revM, May-2009; PackageReference: M08A; PackageDescription: SOIC Narrow, 4.9 x 3.9 x 1.45mm, 8 Lead, 1.27mm Pitch; RoHS: Y; PinCount: 8; CompType: Switcher; Code_JEDEC: MS-012-AA; Code_IPC: SOIC127P600-8; ComponentLink1Description: Manufacturer URL; ComponentLink1URL: http://www.national.com/; ComponentLink2Description: LM2672 Datasheet; ComponentLink2URL: http://www.national.com/ds/LM/LM2672.pdf; ComponentLink3Description: LM2672 Web Page; ComponentLink3URL: http://www.national.com/pf/LM/LM2672.html; ComponentLink4Description: M08A Package Page; ComponentLink4URL: http://www.national.com/packaging/folders/m08a.html
footprint M08A_N (SOIC, 8-Leads, Body 4.9x3.9mm, Pitch 1.27mm, IPC Medium Density)
footprint M08A_L (SOIC, 8-Leads, Body 4.9x3.9mm, Pitch 1.27mm, IPC High Density)
footprint M08A_M (SOIC, 8-Leads, Body 4.9x3.9mm, Pitch 1.27mm, IPC Low Density)
pins: 1 CB, 2 SS (in), 3 SYNC, 4 FB (in), 5 ON/~{OFF} (in), 6 GND (power), 7 VIN (power), 8 VSW (power)

## LM2672M-5.0
designator U?
SIMPLE SWITCHER® Power Converter High Efficiency 1A Step-Down Voltage Regulator with Features, 8-pin Narrow SOIC; PartNumber: LM2672M-5.0; Manufacturer: National Semiconductor; PackageTopMarking: NSZXTT*2672*M5.0; PowerWise: N; High-Reliability: Y; DatasheetVersion: Apr-2007; PackageVersion: revM, May-2009; PackageReference: M08A; PackageDescription: SOIC Narrow, 4.9 x 3.9 x 1.45mm, 8 Lead, 1.27mm Pitch; RoHS: N; PinCount: 8; CompType: Switcher; Code_JEDEC: MS-012-AA; Code_IPC: SOIC127P600-8; ComponentLink1Description: Manufacturer URL; ComponentLink1URL: http://www.national.com/; ComponentLink2Description: LM2672 Datasheet; ComponentLink2URL: http://www.national.com/ds/LM/LM2672.pdf; ComponentLink3Description: LM2672 Web Page; ComponentLink3URL: http://www.national.com/pf/LM/LM2672.html; ComponentLink4Description: M08A Package Page; ComponentLink4URL: http://www.national.com/packaging/folders/m08a.html
footprint M08A_N (SOIC, 8-Leads, Body 4.9x3.9mm, Pitch 1.27mm, IPC Medium Density)
footprint M08A_L (SOIC, 8-Leads, Body 4.9x3.9mm, Pitch 1.27mm, IPC High Density)
footprint M08A_M (SOIC, 8-Leads, Body 4.9x3.9mm, Pitch 1.27mm, IPC Low Density)
pins: 1 CB, 2 SS (in), 3 SYNC, 4 FB (in), 5 ON/~{OFF} (in), 6 GND (power), 7 VIN (power), 8 VSW (power)

## LM2672M-5.0/NOPB
designator U?
SIMPLE SWITCHER® Power Converter High Efficiency 1A Step-Down Voltage Regulator with Features, 8-pin Narrow SOIC, Pb-Free; PartNumber: LM2672M-5.0/NOPB; Manufacturer: National Semiconductor; PackageTopMarking: NSZXTT*2672*M5.0; PowerWise: N; High-Reliability: Y; DatasheetVersion: Apr-2007; PackageVersion: revM, May-2009; PackageReference: M08A; PackageDescription: SOIC Narrow, 4.9 x 3.9 x 1.45mm, 8 Lead, 1.27mm Pitch; RoHS: Y; PinCount: 8; CompType: Switcher; Code_JEDEC: MS-012-AA; Code_IPC: SOIC127P600-8; ComponentLink1Description: Manufacturer URL; ComponentLink1URL: http://www.national.com/; ComponentLink2Description: LM2672 Datasheet; ComponentLink2URL: http://www.national.com/ds/LM/LM2672.pdf; ComponentLink3Description: LM2672 Web Page; ComponentLink3URL: http://www.national.com/pf/LM/LM2672.html; ComponentLink4Description: M08A Package Page; ComponentLink4URL: http://www.national.com/packaging/folders/m08a.html
footprint M08A_N (SOIC, 8-Leads, Body 4.9x3.9mm, Pitch 1.27mm, IPC Medium Density)
footprint M08A_L (SOIC, 8-Leads, Body 4.9x3.9mm, Pitch 1.27mm, IPC High Density)
footprint M08A_M (SOIC, 8-Leads, Body 4.9x3.9mm, Pitch 1.27mm, IPC Low Density)
pins: 1 CB, 2 SS (in), 3 SYNC, 4 FB (in), 5 ON/~{OFF} (in), 6 GND (power), 7 VIN (power), 8 VSW (power)

## LM2672M-12
designator U?
SIMPLE SWITCHER® Power Converter High Efficiency 1A Step-Down Voltage Regulator with Features, 8-pin Narrow SOIC; PartNumber: LM2672M-12; Manufacturer: National Semiconductor; PackageTopMarking: NSZXTT*2672*M-12; PowerWise: N; High-Reliability: Y; DatasheetVersion: Apr-2007; PackageVersion: revM, May-2009; PackageReference: M08A; PackageDescription: SOIC Narrow, 4.9 x 3.9 x 1.45mm, 8 Lead, 1.27mm Pitch; RoHS: N; PinCount: 8; CompType: Switcher; Code_JEDEC: MS-012-AA; Code_IPC: SOIC127P600-8; ComponentLink1Description: Manufacturer URL; ComponentLink1URL: http://www.national.com/; ComponentLink2Description: LM2672 Datasheet; ComponentLink2URL: http://www.national.com/ds/LM/LM2672.pdf; ComponentLink3Description: LM2672 Web Page; ComponentLink3URL: http://www.national.com/pf/LM/LM2672.html; ComponentLink4Description: M08A Package Page; ComponentLink4URL: http://www.national.com/packaging/folders/m08a.html
footprint M08A_N (SOIC, 8-Leads, Body 4.9x3.9mm, Pitch 1.27mm, IPC Medium Density)
footprint M08A_L (SOIC, 8-Leads, Body 4.9x3.9mm, Pitch 1.27mm, IPC High Density)
footprint M08A_M (SOIC, 8-Leads, Body 4.9x3.9mm, Pitch 1.27mm, IPC Low Density)
pins: 1 CB, 2 SS (in), 3 SYNC, 4 FB (in), 5 ON/~{OFF} (in), 6 GND (power), 7 VIN (power), 8 VSW (power)

## LM2672M-12/NOPB
designator U?
SIMPLE SWITCHER® Power Converter High Efficiency 1A Step-Down Voltage Regulator with Features, 8-pin Narrow SOIC, Pb-Free; PartNumber: LM2672M-12/NOPB; Manufacturer: National Semiconductor; PackageTopMarking: NSZXTT*2672*M-12; PowerWise: N; High-Reliability: Y; DatasheetVersion: Apr-2007; PackageVersion: revM, May-2009; PackageReference: M08A; PackageDescription: SOIC Narrow, 4.9 x 3.9 x 1.45mm, 8 Lead, 1.27mm Pitch; RoHS: Y; PinCount: 8; CompType: Switcher; Code_JEDEC: MS-012-AA; Code_IPC: SOIC127P600-8; ComponentLink1Description: Manufacturer URL; ComponentLink1URL: http://www.national.com/; ComponentLink2Description: LM2672 Datasheet; ComponentLink2URL: http://www.national.com/ds/LM/LM2672.pdf; ComponentLink3Description: LM2672 Web Page; ComponentLink3URL: http://www.national.com/pf/LM/LM2672.html; ComponentLink4Description: M08A Package Page; ComponentLink4URL: http://www.national.com/packaging/folders/m08a.html
footprint M08A_N (SOIC, 8-Leads, Body 4.9x3.9mm, Pitch 1.27mm, IPC Medium Density)
footprint M08A_L (SOIC, 8-Leads, Body 4.9x3.9mm, Pitch 1.27mm, IPC High Density)
footprint M08A_M (SOIC, 8-Leads, Body 4.9x3.9mm, Pitch 1.27mm, IPC Low Density)
pins: 1 CB, 2 SS (in), 3 SYNC, 4 FB (in), 5 ON/~{OFF} (in), 6 GND (power), 7 VIN (power), 8 VSW (power)

## LM2672M-ADJ
designator U?
SIMPLE SWITCHER® Power Converter High Efficiency 1A Step-Down Voltage Regulator with Features, 8-pin Narrow SOIC; PartNumber: LM2672M-ADJ; Manufacturer: National Semiconductor; PackageTopMarking: NSZXTT*2672*MADJ; PowerWise: N; High-Reliability: Y; DatasheetVersion: Apr-2007; PackageVersion: revM, May-2009; PackageReference: M08A; PackageDescription: SOIC Narrow, 4.9 x 3.9 x 1.45mm, 8 Lead, 1.27mm Pitch; RoHS: N; PinCount: 8; CompType: Switcher; Code_JEDEC: MS-012-AA; Code_IPC: SOIC127P600-8; ComponentLink1Description: Manufacturer URL; ComponentLink1URL: http://www.national.com/; ComponentLink2Description: LM2672 Datasheet; ComponentLink2URL: http://www.national.com/ds/LM/LM2672.pdf; ComponentLink3Description: LM2672 Web Page; ComponentLink3URL: http://www.national.com/pf/LM/LM2672.html; ComponentLink4Description: M08A Package Page; ComponentLink4URL: http://www.national.com/packaging/folders/m08a.html
footprint M08A_N (SOIC, 8-Leads, Body 4.9x3.9mm, Pitch 1.27mm, IPC Medium Density)
footprint M08A_L (SOIC, 8-Leads, Body 4.9x3.9mm, Pitch 1.27mm, IPC High Density)
footprint M08A_M (SOIC, 8-Leads, Body 4.9x3.9mm, Pitch 1.27mm, IPC Low Density)
pins: 1 CB, 2 SS (in), 3 SYNC, 4 FB (in), 5 ON/~{OFF} (in), 6 GND (power), 7 VIN (power), 8 VSW (power)

## LM2672M-ADJ/NOPB
designator U?
SIMPLE SWITCHER® Power Converter High Efficiency 1A Step-Down Voltage Regulator with Features, 8-pin Narrow SOIC, Pb-Free; PartNumber: LM2672M-ADJ/NOPB; Manufacturer: National Semiconductor; PackageTopMarking: NSZXTT*2672*MADJ; PowerWise: N; High-Reliability: Y; DatasheetVersion: Apr-2007; PackageVersion: revM, May-2009; PackageReference: M08A; PackageDescription: SOIC Narrow, 4.9 x 3.9 x 1.45mm, 8 Lead, 1.27mm Pitch; RoHS: Y; PinCount: 8; CompType: Switcher; Code_JEDEC: MS-012-AA; Code_IPC: SOIC127P600-8; ComponentLink1Description: Manufacturer URL; ComponentLink1URL: http://www.national.com/; ComponentLink2Description: LM2672 Datasheet; ComponentLink2URL: http://www.national.com/ds/LM/LM2672.pdf; ComponentLink3Description: LM2672 Web Page; ComponentLink3URL: http://www.national.com/pf/LM/LM2672.html; ComponentLink4Description: M08A Package Page; ComponentLink4URL: http://www.national.com/packaging/folders/m08a.html
footprint M08A_N (SOIC, 8-Leads, Body 4.9x3.9mm, Pitch 1.27mm, IPC Medium Density)
footprint M08A_L (SOIC, 8-Leads, Body 4.9x3.9mm, Pitch 1.27mm, IPC High Density)
footprint M08A_M (SOIC, 8-Leads, Body 4.9x3.9mm, Pitch 1.27mm, IPC Low Density)
pins: 1 CB, 2 SS (in), 3 SYNC, 4 FB (in), 5 ON/~{OFF} (in), 6 GND (power), 7 VIN (power), 8 VSW (power)

## LM2672MX-3.3
designator U?
SIMPLE SWITCHER® Power Converter High Efficiency 1A Step-Down Voltage Regulator with Features, 8-pin Narrow SOIC; PartNumber: LM2672MX-3.3; Manufacturer: National Semiconductor; PackageTopMarking: NSZXTT*2672*M3.3; PowerWise: N; High-Reliability: Y; DatasheetVersion: Apr-2007; PackageVersion: revM, May-2009; PackageReference: M08A; PackageDescription: SOIC Narrow, 4.9 x 3.9 x 1.45mm, 8 Lead, 1.27mm Pitch; RoHS: N; PinCount: 8; CompType: Switcher; Code_JEDEC: MS-012-AA; Code_IPC: SOIC127P600-8; ComponentLink1Description: Manufacturer URL; ComponentLink1URL: http://www.national.com/; ComponentLink2Description: LM2672 Datasheet; ComponentLink2URL: http://www.national.com/ds/LM/LM2672.pdf; ComponentLink3Description: LM2672 Web Page; ComponentLink3URL: http://www.national.com/pf/LM/LM2672.html; ComponentLink4Description: M08A Package Page; ComponentLink4URL: http://www.national.com/packaging/folders/m08a.html
footprint M08A_N (SOIC, 8-Leads, Body 4.9x3.9mm, Pitch 1.27mm, IPC Medium Density)
footprint M08A_L (SOIC, 8-Leads, Body 4.9x3.9mm, Pitch 1.27mm, IPC High Density)
footprint M08A_M (SOIC, 8-Leads, Body 4.9x3.9mm, Pitch 1.27mm, IPC Low Density)
pins: 1 CB, 2 SS (in), 3 SYNC, 4 FB (in), 5 ON/~{OFF} (in), 6 GND (power), 7 VIN (power), 8 VSW (power)

## LM2672MX-5.0
designator U?
SIMPLE SWITCHER® Power Converter High Efficiency 1A Step-Down Voltage Regulator with Features, 8-pin Narrow SOIC; PartNumber: LM2672MX-5.0; Manufacturer: National Semiconductor; PackageTopMarking: NSZXTT*2672*M5.0; PowerWise: N; High-Reliability: Y; DatasheetVersion: Apr-2007; PackageVersion: revM, May-2009; PackageReference: M08A; PackageDescription: SOIC Narrow, 4.9 x 3.9 x 1.45mm, 8 Lead, 1.27mm Pitch; RoHS: N; PinCount: 8; CompType: Switcher; Code_JEDEC: MS-012-AA; Code_IPC: SOIC127P600-8; ComponentLink1Description: Manufacturer URL; ComponentLink1URL: http://www.national.com/; ComponentLink2Description: LM2672 Datasheet; ComponentLink2URL: http://www.national.com/ds/LM/LM2672.pdf; ComponentLink3Description: LM2672 Web Page; ComponentLink3URL: http://www.national.com/pf/LM/LM2672.html; ComponentLink4Description: M08A Package Page; ComponentLink4URL: http://www.national.com/packaging/folders/m08a.html
footprint M08A_N (SOIC, 8-Leads, Body 4.9x3.9mm, Pitch 1.27mm, IPC Medium Density)
footprint M08A_L (SOIC, 8-Leads, Body 4.9x3.9mm, Pitch 1.27mm, IPC High Density)
footprint M08A_M (SOIC, 8-Leads, Body 4.9x3.9mm, Pitch 1.27mm, IPC Low Density)
pins: 1 CB, 2 SS (in), 3 SYNC, 4 FB (in), 5 ON/~{OFF} (in), 6 GND (power), 7 VIN (power), 8 VSW (power)

## LM2672MX-12
designator U?
SIMPLE SWITCHER® Power Converter High Efficiency 1A Step-Down Voltage Regulator with Features, 8-pin Narrow SOIC; PartNumber: LM2672MX-12; Manufacturer: National Semiconductor; PackageTopMarking: NSZXTT*2672*M-12; PowerWise: N; High-Reliability: Y; DatasheetVersion: Apr-2007; PackageVersion: revM, May-2009; PackageReference: M08A; PackageDescription: SOIC Narrow, 4.9 x 3.9 x 1.45mm, 8 Lead, 1.27mm Pitch; RoHS: N; PinCount: 8; CompType: Switcher; Code_JEDEC: MS-012-AA; Code_IPC: SOIC127P600-8; ComponentLink1Description: Manufacturer URL; ComponentLink1URL: http://www.national.com/; ComponentLink2Description: LM2672 Datasheet; ComponentLink2URL: http://www.national.com/ds/LM/LM2672.pdf; ComponentLink3Description: LM2672 Web Page; ComponentLink3URL: http://www.national.com/pf/LM/LM2672.html; ComponentLink4Description: M08A Package Page; ComponentLink4URL: http://www.national.com/packaging/folders/m08a.html
footprint M08A_N (SOIC, 8-Leads, Body 4.9x3.9mm, Pitch 1.27mm, IPC Medium Density)
footprint M08A_L (SOIC, 8-Leads, Body 4.9x3.9mm, Pitch 1.27mm, IPC High Density)
footprint M08A_M (SOIC, 8-Leads, Body 4.9x3.9mm, Pitch 1.27mm, IPC Low Density)
pins: 1 CB, 2 SS (in), 3 SYNC, 4 FB (in), 5 ON/~{OFF} (in), 6 GND (power), 7 VIN (power), 8 VSW (power)

## LM2672MX-ADJ
designator U?
SIMPLE SWITCHER® Power Converter High Efficiency 1A Step-Down Voltage Regulator with Features, 8-pin Narrow SOIC; PartNumber: LM2672MX-ADJ; Manufacturer: National Semiconductor; PackageTopMarking: NSZXTT*2672*MADJ; PowerWise: N; High-Reliability: Y; DatasheetVersion: Apr-2007; PackageVersion: revM, May-2009; PackageReference: M08A; PackageDescription: SOIC Narrow, 4.9 x 3.9 x 1.45mm, 8 Lead, 1.27mm Pitch; RoHS: N; PinCount: 8; CompType: Switcher; Code_JEDEC: MS-012-AA; Code_IPC: SOIC127P600-8; ComponentLink1Description: Manufacturer URL; ComponentLink1URL: http://www.national.com/; ComponentLink2Description: LM2672 Datasheet; ComponentLink2URL: http://www.national.com/ds/LM/LM2672.pdf; ComponentLink3Description: LM2672 Web Page; ComponentLink3URL: http://www.national.com/pf/LM/LM2672.html; ComponentLink4Description: M08A Package Page; ComponentLink4URL: http://www.national.com/packaging/folders/m08a.html
footprint M08A_N (SOIC, 8-Leads, Body 4.9x3.9mm, Pitch 1.27mm, IPC Medium Density)
footprint M08A_L (SOIC, 8-Leads, Body 4.9x3.9mm, Pitch 1.27mm, IPC High Density)
footprint M08A_M (SOIC, 8-Leads, Body 4.9x3.9mm, Pitch 1.27mm, IPC Low Density)
pins: 1 CB, 2 SS (in), 3 SYNC, 4 FB (in), 5 ON/~{OFF} (in), 6 GND (power), 7 VIN (power), 8 VSW (power)

## LM2672N-3.3
designator U?
SIMPLE SWITCHER® Power Converter High Efficiency 1A Step-Down Voltage Regulator with Features, 8-pin MDIP; PartNumber: LM2672N-3.3; Manufacturer: National Semiconductor; PackageTopMarking: NSUZXYTTE#*LM2672*N-3.3; PowerWise: N; High-Reliability: Y; DatasheetVersion: Apr-2007; PackageVersion: revG, May-2006; PackageReference: N08E; PackageDescription: MDIP, .365 x .250 x .130in, 8 Lead, .100in Pitch; RoHS: N; PinCount: 8; CompType: Switcher; Code_JEDEC: MS-001-BA; ComponentLink1Description: Manufacturer URL; ComponentLink1URL: http://www.national.com/; ComponentLink2Description: LM2672 Datasheet; ComponentLink2URL: http://www.national.com/ds/LM/LM2672.pdf; ComponentLink3Description: LM2672 Web Page; ComponentLink3URL: http://www.national.com/pf/LM/LM2672.html; ComponentLink4Description: N08E Package Page; ComponentLink4URL: http://www.national.com/packaging/folders/n08e.html
footprint N08E (DIP, 8-Leads, Row Spacing 7.62mm, Pitch 2.54mm, Body 9.91x6.35mm)
pins: 1 CB, 2 SS (in), 3 SYNC, 4 FB (in), 5 ON/~{OFF} (in), 6 GND (power), 7 VIN (power), 8 VSW (power)